# Altium footprint library USB-C_CONN.PcbLib: 1 footprints
Each footprint in its own frame and in the unit in brackets; x right, y up, seen from the top. Pads: shape width x height; smd on the part's side, far side on the other; paste and mask are expansions set on the pad; w line width, h text height; cw(c..) or ccw(c..) is an arc to the next point about the centre after c.
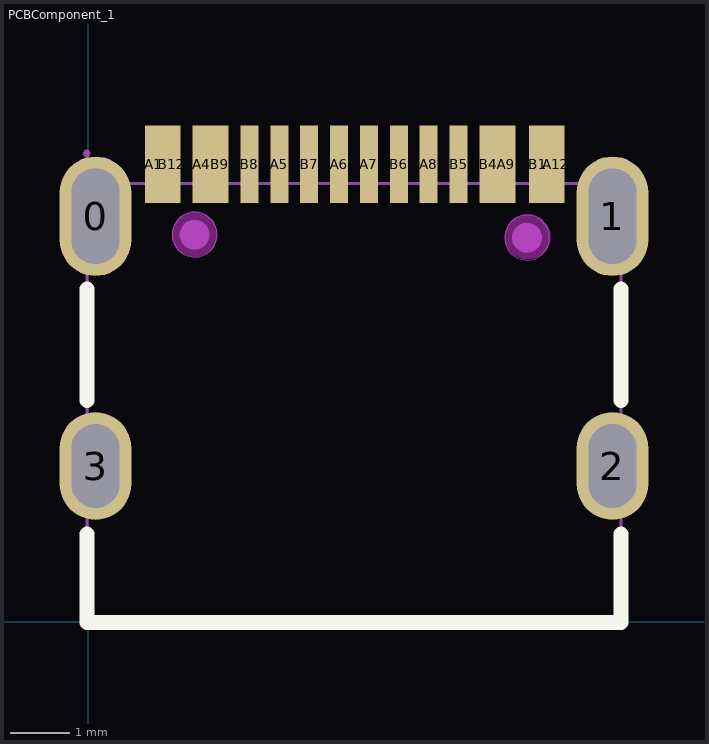
[diagram p0: the footprint, top view; thin cyan lines are the x and y axes]

## PCBComponent_1 [mm] "USB-C_SMD-TYPE-C-31-M-12"
pads (20):
  oval 1.2x2 hole 0.8 slot 1.6 at 90 deg: 0(0.12,6.786) 1(8.77,6.786)
  oval 1.2x1.8 hole 0.8 slot 1.4 at 90 deg: 2(8.77,2.606) 3(0.12,2.606)
  rect 0.3x1.3 smd paste-100 mask+0.051: A1(1.095,7.656) A4(1.895,7.656) A5(3.195,7.656) A6(4.195,7.656) A7(4.695,7.656) A8(5.695,7.656) A9(6.995,7.656) A12(7.82,7.656) B1(7.52,7.656) B4(6.695,7.656) B5(6.195,7.656) B6(5.195,7.656) B7(3.695,7.656) B8(2.695,7.656) B9(2.195,7.656) B12(1.395,7.656)
Top Overlay:
  lines w0.254: -0.024,1.467 -0.024,-0.014 8.916,-0.014 8.916,1.468 ; -0.024,3.704 -0.024,5.567 ; 8.916,3.704 8.916,5.568
Top Paste:
  drawing of 16 lines, arcs and shapes, not listed
Keep-Out Layer:
  board cut-out: 7.727,6.44 7.727,6.515 7.67,6.653 7.564,6.758 7.426,6.815 7.277,6.815 7.139,6.758 7.034,6.653 6.977,6.515 6.977,6.44 6.977,6.366 7.034,6.228 7.139,6.122 7.277,6.065 7.426,6.065 7.564,6.122 7.67,6.228 7.727,6.366
  board cut-out: 2.151,6.483 2.151,6.558 2.094,6.695 1.989,6.801 1.851,6.858 1.702,6.858 1.564,6.801 1.458,6.695 1.401,6.558 1.401,6.483 1.401,6.408 1.458,6.271 1.564,6.165 1.702,6.108 1.851,6.108 1.989,6.165 2.094,6.271 2.151,6.408
Mechanical 1:
  circle w0.005: c7.341,6.426 r0.375
  circle w0.005: c1.778,6.477 r0.375
Mechanical 6:
  circle w0.25: c7.341,6.426 r0.125
  circle w0.25: c1.778,6.477 r0.125
Mechanical 15:
  region: 1.035,7.938 1.235,7.938 1.235,7.238 1.035,7.238
  region: 1.235,7.938 1.435,7.938 1.435,7.238 1.235,7.238
  region: 1.835,7.938 2.035,7.938 2.035,7.238 1.835,7.238
  region: 2.035,7.938 2.235,7.938 2.235,7.238 2.035,7.238
  region: 6.655,7.938 6.855,7.938 6.855,7.238 6.655,7.238
  region: 6.855,7.938 7.055,7.938 7.055,7.238 6.855,7.238
  region: 2.595,7.938 2.795,7.938 2.795,7.238 2.595,7.238
  region: 3.095,7.938 3.295,7.938 3.295,7.238 3.095,7.238
  region: 3.595,7.938 3.795,7.938 3.795,7.238 3.595,7.238
  region: 4.095,7.938 4.295,7.938 4.295,7.238 4.095,7.238
  region: 4.595,7.938 4.795,7.938 4.795,7.238 4.595,7.238
  region: 5.095,7.938 5.295,7.938 5.295,7.238 5.095,7.238
  region: 5.595,7.938 5.795,7.938 5.795,7.238 5.595,7.238
  region: 6.095,7.938 6.295,7.938 6.295,7.238 6.095,7.238
  region: 7.48,7.938 7.68,7.938 7.68,7.238 7.48,7.238
  region: 7.68,7.938 7.88,7.938 7.88,7.238 7.68,7.238
  region: -0.03,7.336 0.27,7.336 0.27,6.236 -0.03,6.236
  region: 8.62,7.336 8.92,7.336 8.92,6.236 8.62,6.236
  region: 8.62,3.006 8.92,3.006 8.92,2.206 8.62,2.206
  region: -0.03,3.006 0.27,3.006 0.27,2.206 -0.03,2.206
  region: 0.03,7.836 0.03,7.861 -0.005,7.896 -0.055,7.896 -0.09,7.861 -0.09,7.836 -0.09,7.811 -0.055,7.776 -0.005,7.776 0.03,7.811
  lines w0.051: -0.025,-0.014 8.915,-0.014 8.915,7.336 -0.025,7.336 -0.025,-0.014
Multi-Layer:
  circle w0.102: c7.315,6.375 r0.305
  circle w0.102: c1.778,6.452 r0.305
3D body "1332645.stp": height 3.17, standoff -1.19, extent -0.025,0.325 8.915,7.925